# Altium schematic symbol library connectors.SchLib: 9 symbols
Pins are listed as number, name and electrical type; pins without a type are passive.

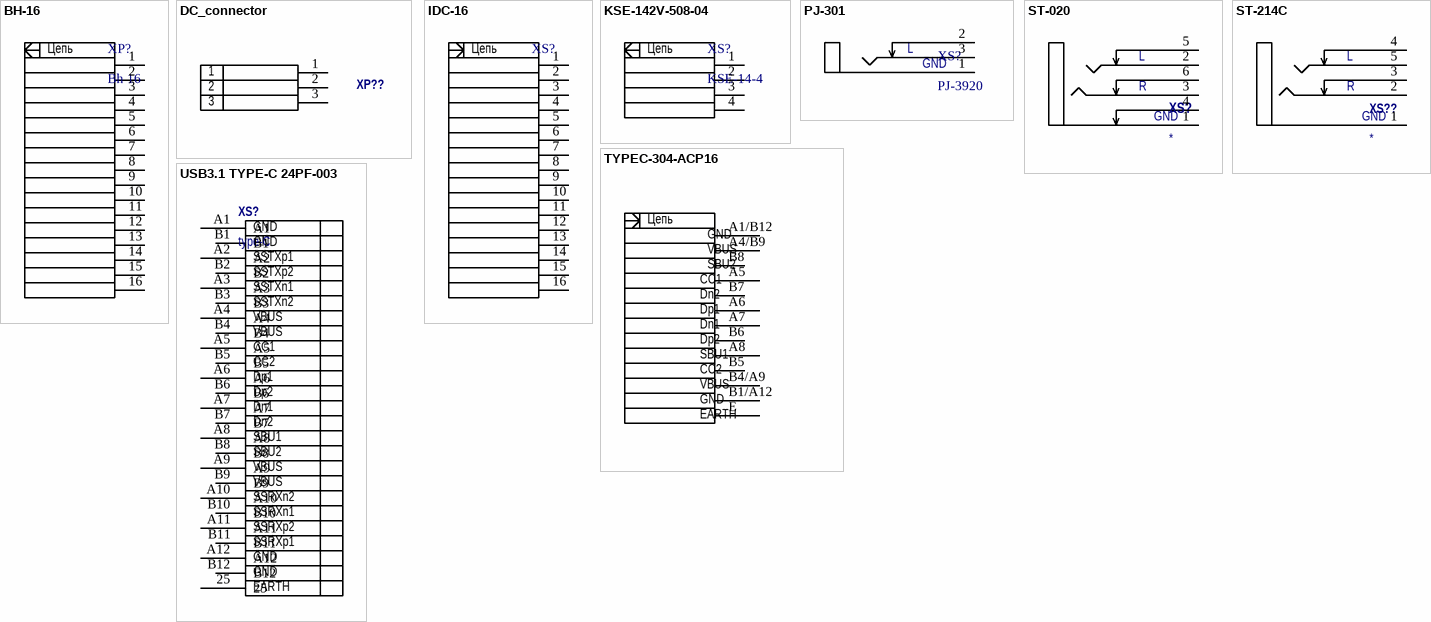
[diagram p0: symbols BH-16 to USB3.1 TYPE-C 24PF-003]

## BH-16
designator XP?, comment Bh 16
Вилка 16 контактов
footprint HDR2X8 - BH (Connector; Header; 8x2 Position)
pins: 1, 2, 3, 4, 5, 6, 7, 8, 9, 10, 11, 12, 13, 14, 15, 16
text: Цепь

## DC_connector
designator XP??
name: Вилка PLS2; type: Вилки
footprint DS-210
pins: 1, 2, 3

## IDC-16
designator XS?  (value not drawn)  (mechanical)
Розетка 16 контактов под шлейф
pins: 1, 2, 3, 4, 5, 6, 7, 8, 9, 10, 11, 12, 13, 14, 15, 16
text: Цепь

## KSE-142V-508-04
designator XS?, comment KSE-14-4
Клемма 4 контакта
footprint KSE-14-4
pins: 1, 2, 3, 4
text: Цепь

## PJ-301
designator XS?, comment PJ-3920
Розетка 3.5 мм моно
footprint PJ-301
pins: 1, 2, 3
text: L; GND

## ST-020
designator XS?
name: ST-020
footprint ST-020
footprint ST-020 - DWN
pins: 1 GND, 2 TIP, 3 RING, 4 GND_NC, 5 GND_NC, 6 RING_NC
text: L; R

## ST-214C
designator XS??
name: Розетка ST-214C; type: Розетки
footprint ST-214C
pins: 1, 2, 3, 4, 5
text: L; R; GND

## TYPEC-304-ACP16
designator XS?
3A 1 Horizontal attachment 16P Female -40~+85 Type-C SMD USB Connectors ROHS; name: TYPEC-304-ACP16; planar: 1; rotation_offset: 90
footprint TYPEC-304-ACP16 (3A 1 Horizontal attachment 16P Female -40~+85 Type-C SMD USB Connectors ROHS)
pins: A1/B12 A1/B1, A4/B9, A5, A6, A7, A8, B1/A12, B4/A9, B5, B6, B7, B8, E
text: Цепь; GND; VBUS; SBU2; CC1; Dn2; Dp1; Dn1; Dp2; SBU1; CC2; EARTH

## USB3.1 TYPE-C 24PF-003
designator XS?, comment type-C
name: USB3.1 TYPE-C 24PF-003; type: Розетки
footprint type c 24F-002
pins: 25, A1, A2, A3, A4, A5, A6, A7, A8, A9, A10, A11, A12, B1, B2, B3, B4, B5, B6, B7, B8, B9, B10, B11, B12
text: GND; SSTXp1; SSTXp2; SSTXn1; SSTXn2; VBUS; CC1; CC2; Dp1; Dp2; Dn1; Dn2; SBU1; SBU2; SSRXn2; SSRXn1; SSRXp2; SSRXp1; EARTH